# EAGLE library part LTC3600-MSOP12EP (library Neel)
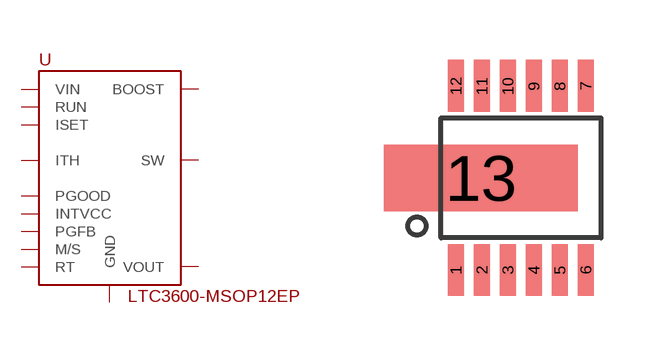
[diagram p61: symbol with the pads of MSOP-12; footprint MSOP-12]

Designator prefix -

## LTC3600-MSOP12EP  [MSOP-12]
1  ISET
2  ITH
3  RT
4  PGFB
5  RUN
6  M/S
7  SW
8  VIN
9  BOOST
10  INTVCC
11  VOUT
12  PGOOD
13  GND

## Footprint MSOP-12 (pad centres in mm)
smd 0.4 x 1.3: 1 -1.625,-2.3; 2 -0.975,-2.3; 3 -0.325,-2.3; 4 0.325,-2.3; 5 0.975,-2.3; 6 1.625,-2.3; 7 1.625,2.3; 8 0.975,2.3; 9 0.325,2.3; 10 -0.325,2.3; 11 -0.975,2.3; 12 -1.625,2.3
smd 4.845 x 1.651: 13 -1,0